# Altium footprint library SS5D.PcbLib: 1 footprints
Each footprint in its own frame and in the unit in brackets; x right, y up, seen from the top. Pads: shape width x height; smd on the part's side, far side on the other; paste and mask are expansions set on the pad; w line width, h text height; cw(c..) or ccw(c..) is an arc to the next point about the centre after c.
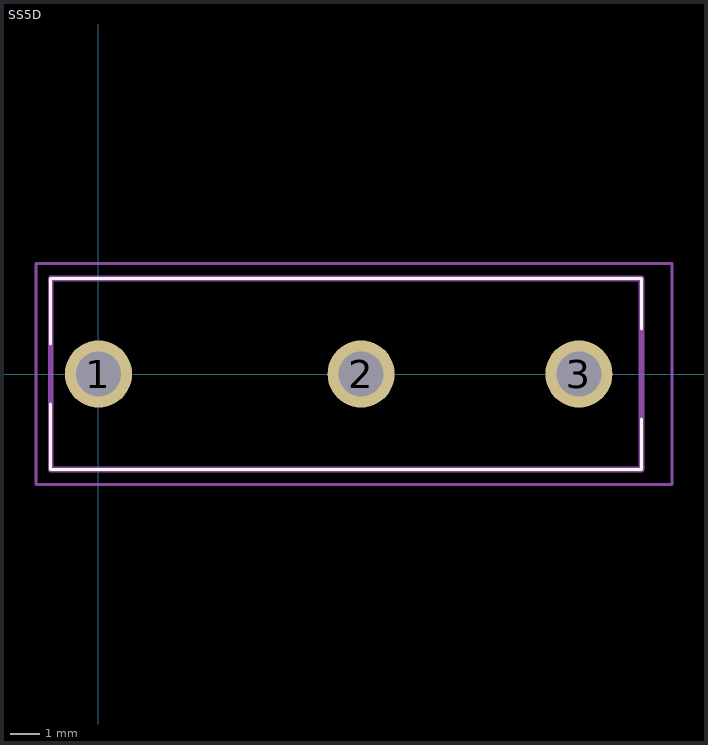
[diagram p0: the footprint, top view; thin cyan lines are the x and y axes]

## SS5D [mm]
pads (3):
  round 2.25 hole 1.5: 1(0,0) 2(8.8,0) 3(16.1,0)
Top Overlay:
  lines w0.1: -1.6,-1 -1.6,-3.2 18.2,-3.2 18.2,-1.5 ; -1.6,1 -1.6,3 -1.6,3.2 18.2,3.2 18.2,1.5
Mechanical 15:
  lines w0.2: -1.6,-3.2 18.2,-3.2 18.2,3.2 -1.6,3.2 -1.6,-3.2
Mechanical 20:
  lines w0.1: -2.1,-3.7 19.225,-3.7 19.225,3.7 -2.1,3.7 -2.1,-3.7